# EAGLE library part ISL3175 (library libredaq-comps)
The Intersil ISL317XE are ±15kV IEC61000 ESD Protected, 3.3V-powered, single transceivers that meet both the RS-485 and RS-422 standards for balanced communication.
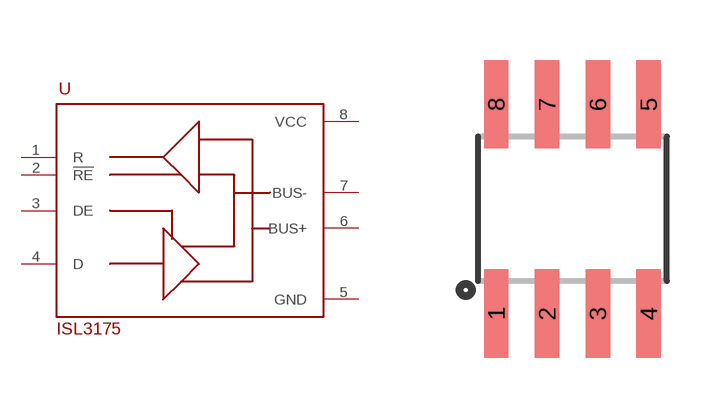
[diagram p15: symbol with the pads of SOIC8; footprint SOIC8]

Designator prefix -

## ISL3175  [SOIC8]
1  R
2  !RE
3  DE
4  D
5  GND
6  BUS+
7  BUS-
8  VCC

## Footprint SOIC8 (pad centres in mm)
smd 0.61 x 2.21: 1 -0.635,-2.616; 2 0.635,-2.616; 3 1.905,-2.616; 4 3.175,-2.616; 5 3.175,2.616; 6 1.905,2.616; 7 0.635,2.616; 8 -0.635,2.616